# Altium schematic symbol library pumpctrl.SchLib: 22 symbols
Pins are listed as number, name and electrical type; pins without a type are passive.

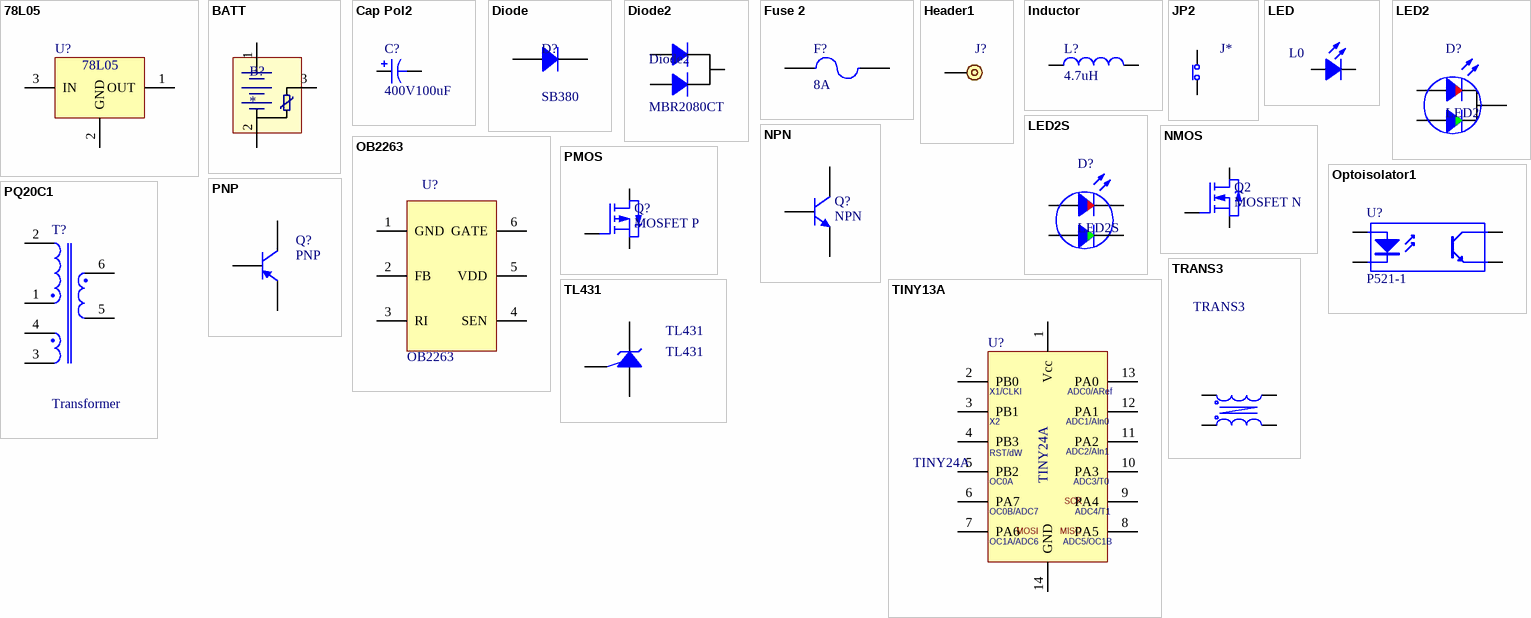
[diagram p0: symbols 78L05 to TRANS3]

## 78L05
designator U?
Positive Voltage Regulator; Published: 24-Aug-2001; LatestRevisionDate: 6-Jun-2005; LatestRevisionNote: PCB pads lengthened.; DatasheetDocument: Apr-1994; PackageDocument: Jun-2004; PackageReference: TO-252; Publisher: Altium Limited; ComponentLink1Description: Manufacturer Link; ComponentLink1URL: http://www.st.com/
footprint TO-92D
pins: 1 OUT (power), 2 GND (power), 3 IN (power)

## BATT
designator B?
NiZn Battery
footprint SO14
footprint BATT
pins: 1 B+ (power) "Battery +", 2 B- (power) "Battery -", 3 T (power) "Battery NTC"

## Cap Pol2
designator C?, comment 400V100uF
Polarized Capacitor (Axial); Published: 8-Jun-2000; LatestRevisionDate: 17-Jul-2002; LatestRevisionNote: Re-released for DXP Platform.; Publisher: Altium Limited
footprint CAP1
simulation model CAP (Capacitor)
signal-integrity model Cap Pol
footprint CAP2
footprint CAP3 (Capacitor, Electrolytic, Radial; Body 5 x 6.8 mm (Dia.xH typ); Pin Spacing 2 mm (typ))
pins: 1, 2
1 alternate drawing of the same symbol

## Diode
designator D?, comment SB380
1 Amp Fast Recovery Rectifier; Published: 8-Jun-2000; LatestRevisionDate: 17-Jul-2002; LatestRevisionNote: Re-released for DXP Platform.; DatasheetDocument: 1999; PackageDocument: Aug-1999; PackageReference: DO-41; Publisher: Altium Limited; ComponentLink1Description: Manufacturer Link; ComponentLink1URL: http://www.fairchildsemi.com/; Code_JEDEC: DO-204-AL
simulation model 1N4934 (DIODE)
signal-integrity model 1N4934
footprint DIO1
footprint DIO2
footprint DIO3
pins: 1 A, 2 K

## Diode2
designator Diode2, comment MBR2080CT
Dual Diode TO-220; Published: 8-Jun-2000; LatestRevisionDate: 17-Jul-2002; LatestRevisionNote: Re-released for DXP Platform.; DatasheetDocument: 1999; PackageDocument: Aug-1999; PackageReference: DO-41; Publisher: Altium Limited; ComponentLink1Description: Manufacturer Link; ComponentLink1URL: http://www.fairchildsemi.com/; Code_JEDEC: DO-204-AL
simulation model 1N4934 (DIODE)
signal-integrity model 1N4934
footprint TO220
footprint DIO2
footprint DIO3
pins: 1 A, 2 K, 3 A

## Fuse 2
designator F?, comment 8A
Fuse; Published: 8-Jun-2000; LatestRevisionDate: 17-Jul-2002; LatestRevisionNote: Re-released for DXP Platform.; Publisher: Altium Limited
footprint FUSE
simulation model FUSE (Spice Subcircuit)
pins: 1, 2

## Header1
designator J?
Header, 1-Pin; LatestRevisionDate: 17-Jul-2002; LatestRevisionNote: Re-released for DXP Platform.; Publisher: Altium Limited
footprint HDR1X2 (Connector; Header; 2 Position)
signal-integrity model Connector
footprint Terminal2_1 (Connector; Header; 2 Position)
pins: 1

## Inductor
designator L?, comment 4.7uH
Inductor; Code_IEC: 1005; Published: 8-Jun-2000; LatestRevisionDate: 17-Jul-2002; LatestRevisionNote: Re-released for DXP Platform.; PackageReference: 0402-A; Publisher: Altium Limited; Code_JEITA: 0402
simulation model INDUCTOR (Inductor)
signal-integrity model Inductor
footprint INDUCTOR
pins: 1, 2

## JP2
designator J*, comment Jump  (value not drawn)
可选短路点; Accuracy: 1%; Published: 8-Jun-2000; LatestRevisionDate: 17-Jul-2002; LatestRevisionNote: Re-released for DXP Platform.; PackageReference: AXIAL-0.3; Publisher: Altium Limited; PackageDescription: Axial Device, Thru-Hole; 2 Leads; 0.3 in Pin Spacing
footprint RES0805
simulation model RESISTOR (Resistor)
signal-integrity model Res
pins: 1, 2

## LED
designator L0, comment 高亮翠绿  (value not drawn)
贴片LED 0805; Published: 8-Jun-2000; LatestRevisionDate: 08-Jul-2005; LatestRevisionNote: Mech Layer 1 removed.; PackageReference: LED-0; Publisher: Altium Limited; PackageDescription: LED; 2 Leads
simulation model LED0 (Diode)
footprint LED2G_SLIM
footprint LED1G
footprint LED1Y
footprint LED1B
footprint LED2R
footprint LED2G
footprint LED2Y
footprint LED2B
pins: 1 A, 2 K

## LED2
designator D?
LEDx2; Published: 8-Jun-2000; LatestRevisionDate: 08-Jul-2005; LatestRevisionNote: Mech Layer 1 removed.; PackageReference: LED-0; Publisher: Altium Limited; PackageDescription: LED; 2 Leads
pins: 1, 2, 3

## LED2S
designator D?
LEDx2; Published: 8-Jun-2000; LatestRevisionDate: 08-Jul-2005; LatestRevisionNote: Mech Layer 1 removed.; PackageReference: LED-0; Publisher: Altium Limited; PackageDescription: LED; 2 Leads
footprint LED_RG
pins: 1, 2, 3, 4

## NMOS
designator Q2, comment MOSFET N
Published: 8-Jun-2000; LatestRevisionDate: 17-Jul-2002; LatestRevisionNote: Re-released for DXP Platform.; PackageVersion: 1995/1996; PackageReference: E3; Publisher: Altium Limited; PackageDescription: TO, Flat Index; 3 In-Line, Axial Leads; Body Dia. 4.6mm; Lead Dia. 0.5 mm (max)
pins: D, G, S

## NPN
designator Q?
NPN General Purpose Transistor; Published: 8-Jun-2000; LatestRevisionDate: 17-Jul-2002; LatestRevisionNote: Re-released for DXP Platform.; PackageReference: TO-226-AA; Publisher: Altium Limited; PackageDescription: TO, Flat Index; 3 In-Line, Axial Leads; Body Dia. 4.8mm; Leads 0.55 x 0.51 mm (max); Code_JEDEC: TO-226-AA
simulation model NPN
signal-integrity model NPN
footprint TO-92D
footprint SOT23_CBE
pins: B, C, E

## OB2263
designator U?
OB2263 PWM Controller
footprint DIP8
footprint SOT23-6
pins: 1 GND, 2 FB, 3 RI, 4 SEN, 5 VDD, 6 GATE
2 alternate drawings of the same symbol

## Optoisolator1
designator U?, comment P521-1
4-Pin Phototransistor Optocoupler; Published: 24-Mar-1999; LatestRevisionDate: 4-Mar-2005; LatestRevisionNote: Sch pins 3 & 4 Swapped.; DatasheetDocument: Nov-2003; PackageReference: DIP-4; Publisher: Altium Limited
footprint DIP-4 (DIP; 4 Leads; Row Spacing 7.62 mm; Pitch 2.54 mm)
pins: 1 A "Anode", 2 K "Cathode", 3 E "Emitter", 4 C "Collector"

## PMOS
designator Q?, comment MOSFET P
Published: 8-Jun-2000; LatestRevisionDate: 17-Jul-2002; LatestRevisionNote: Re-released for DXP Platform.; PackageVersion: 1995/1996; PackageReference: E3; Publisher: Altium Limited; PackageDescription: TO, Flat Index; 3 In-Line, Axial Leads; Body Dia. 4.6mm; Lead Dia. 0.5 mm (max)
pins: D, G, S

## PNP
designator Q?
PNP General Purpose Amplifier; Published: 8-Jun-2000; LatestRevisionDate: 15-Jan-2003; LatestRevisionNote: PCB Footprint 'BCY-W3/D4.7' replaced; DatasheetVersion: 1997; PackageVersion: Sep-1998; PackageReference: TO-92A; Publisher: Altium Limited; PackageDescription: TO, Flat Index; 3 In-Line, Axial Leads; Body Dia. 4.5mm; Leads 0.51 x 0.48 mm (max); ComponentLink1Description: Manufacturer Link; ComponentLink1URL: http://www.fairchildsemi.com/; ComponentLink2Description: Datasheet; ComponentLink2URL: http://www.fairchildsemi.com/ds/2N%2F2N3906.pdf
footprint TO-92A (TO, Flat Index; 3 In-Line, Axial Leads; Body Dia. 4.5mm; Leads 0.51 x 0.48 mm (max))
simulation model 2N3906 (PNP)
signal-integrity model 2N3906
footprint SOT23_CBE
pins: B, C, E

## PQ20C1
designator T?, comment Transformer
Published: 24-Mar-1999; LatestRevisionDate: 17-Jul-2002; LatestRevisionNote: Re-released for DXP Platform.; Publisher: Altium Limited
footprint PQ20C1
pins: 1, 2, 3, 4, 5, 6

## TINY13A
designator U?, comment TINY24A
PI TinySwitch II
footprint DIP-8 (DIP; 8 Leads; Row Spacing 7.62 mm; Pitch 2.54 mm)
pins: 1 Vcc (power), 2 PB0 (power) "RST/ADC0", 3 PB1 (power) "CLKI/ADC3", 4 PB3 (power) "ADC2", 5 PB2 (power) "RST/ADC0", 6 PA7 (power) "CLKI/ADC3", 7 PA6 (power) "ADC2", 8 PA5 (power) "MOSI/OC0A", 9 PA4 (power) "MISO/OC0B", 10 PA3 (power) "SCK/ADC1", 11 PA2 (power) "MOSI/OC0A", 12 PA1 (power) "MISO/OC0B", 13 PA0 (power) "SCK/ADC1", 14 GND (power)
text: X1/CLKI; ADC0/ARef; X2; ADC1/AIn0; RST/dW; ADC2/AIn1; OC0A; ADC3/T0; SCK; OC0B/ADC7; ADC4/T1; MOSI; MISO; OC1A/ADC6; ADC5/OC1B

## TL431
designator TL431
Reference; Published: 8-Jun-2000; LatestRevisionDate: 17-Jul-2002; LatestRevisionNote: Re-released for DXP Platform.; Publisher: Altium Limited
footprint TO-92D
footprint SOT23_431
pins: 1 R, 2 A, 3 C

## TRANS3
designator TRANS3
footprint BU9
pins: 1, 2, 3, 4